# EAGLE library part MA22-2 (library con-edge-156)
44 PIN EDGE CONNECTOR FOR PCB
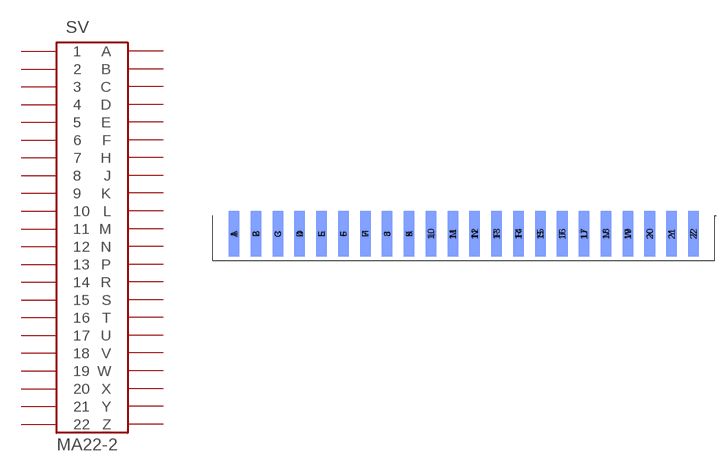
[diagram p0: symbol with the pads of MA22-2; footprint MA22-2]

Designator prefix SV

## MA22-2  [MA22-2]
1  1  pas
2  2  pas
3  3  pas
4  4  pas
5  5  pas
6  6  pas
7  7  pas
8  8  pas
9  9  pas
10  10  pas
11  11  pas
12  12  pas
13  13  pas
14  14  pas
15  15  pas
16  16  pas
17  17  pas
18  18  pas
19  19  pas
20  20  pas
21  21  pas
22  22  pas
A  A  pas
B  B  pas
C  C  pas
D  D  pas
E  E  pas
F  F  pas
H  H  pas
J  J  pas
K  K  pas
L  L  pas
M  M  pas
N  N  pas
P  P  pas
R  R  pas
S  S  pas
T  T  pas
U  U  pas
V  V  pas
W  W  pas
X  X  pas
Y  Y  pas
Z  Z  pas

## Footprint MA22-2 (pad centres in mm)
44 Pin Edge Connector for PCB
smd 1.905 x 8.255: 1 -41.605,0.381; 2 -37.643,0.381; 3 -33.68,0.381; 4 -29.718,0.381; 5 -25.756,0.381; 6 -21.793,0.381; 7 -17.831,0.381; 8 -13.868,0.381; 9 -9.906,0.381; 10 -5.944,0.381; 11 -1.981,0.381; 12 1.981,0.381; 13 5.944,0.381; 14 9.906,0.381; 15 13.868,0.381; 16 17.831,0.381; 17 21.793,0.381; 18 25.756,0.381; 19 29.718,0.381; 20 33.68,0.381; 21 37.643,0.381; 22 41.605,0.381
smd 1.905 x 8.255 bottom: A -41.605,0.381; B -37.643,0.381; C -33.68,0.381; D -29.718,0.381; E -25.756,0.381; F -21.793,0.381; H -17.831,0.381; J -13.868,0.381; K -9.906,0.381; L -5.944,0.381; M -1.981,0.381; N 1.981,0.381; P 5.944,0.381; R 9.906,0.381; S 13.868,0.381; T 17.831,0.381; U 21.793,0.381; V 25.756,0.381; W 29.718,0.381; X 33.68,0.381; Y 37.643,0.381; Z 41.605,0.381